# EAGLE library part REG_MB39C811 (library akita)
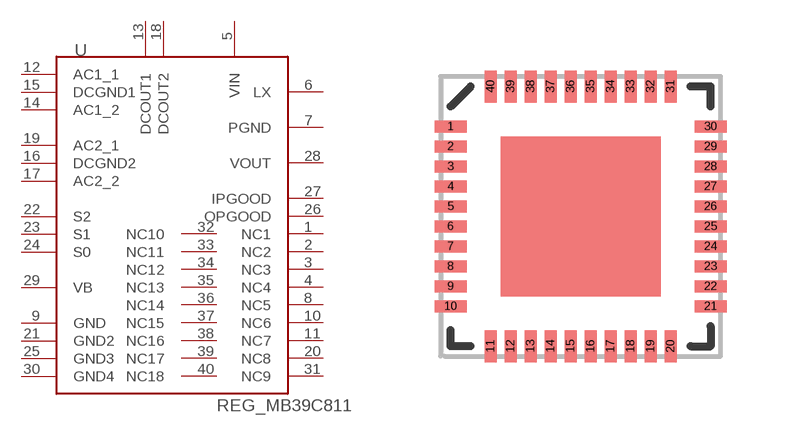
[diagram p76: symbol with the pads of QFN-40; footprint QFN-40]

Designator prefix -

## REG_MB39C811  [QFN-40]
1  NC1
2  NC2
3  NC3
4  NC4
5  VIN
6  LX
7  PGND
8  NC5
9  GND
10  NC6
11  NC7
12  AC1_1
13  DCOUT1
14  AC1_2
15  DCGND1
16  DCGND2
17  AC2_2
18  DCOUT2
19  AC2_1
20  NC8
21  GND2
22  S2
23  S1
24  S0
25  GND3
26  OPGOOD
27  IPGOOD
28  VOUT
29  VB
30  GND4
31  NC9
32  NC10
33  NC11
34  NC12
35  NC13
36  NC14
37  NC15
38  NC16
39  NC17
40  NC18

## Footprint QFN-40 (pad centres in mm)
smd 0.8 x 0.3: 1 -3.25,2.25; 2 -3.25,1.75; 3 -3.25,1.25; 4 -3.25,0.75; 5 -3.25,0.25; 6 -3.25,-0.25; 7 -3.25,-0.75; 8 -3.25,-1.25; 9 -3.25,-1.75; 10 -3.25,-2.25; 21 3.25,-2.25; 22 3.25,-1.75; 23 3.25,-1.25; 24 3.25,-0.75; 25 3.25,-0.25; 26 3.25,0.25; 27 3.25,0.75; 28 3.25,1.25; 29 3.25,1.75; 30 3.25,2.25
smd 0.3 x 0.8: 11 -2.25,-3.25; 12 -1.75,-3.25; 13 -1.25,-3.25; 14 -0.75,-3.25; 15 -0.25,-3.25; 16 0.25,-3.25; 17 0.75,-3.25; 18 1.25,-3.25; 19 1.75,-3.25; 20 2.25,-3.25; 31 2.25,3.25; 32 1.75,3.25; 33 1.25,3.25; 34 0.75,3.25; 35 0.25,3.25; 36 -0.25,3.25; 37 -0.75,3.25; 38 -1.25,3.25; 39 -1.75,3.25; 40 -2.25,3.25